# EAGLE library part USB3090-XX-X_REVE (library USB3090-XX-X_REVE)
Micro USB Receptacle, Type AB, SMT, R/A, Bottom Mount, w/out Peg, w/outer shell stakes Check prices <https://pricing.snapeda.com/parts/USB3090-30-A/Global%20Connector%20Technology/view-part?ref=eda>
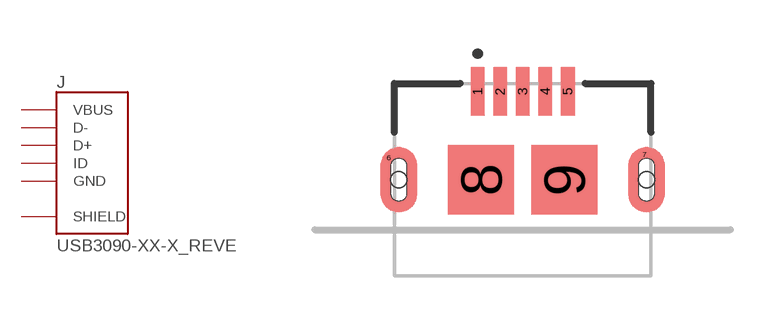
[diagram p0: symbol with the pads of GCT_USB3090-XX-X_REVE; footprint GCT_USB3090-XX-X_REVE]

Designator prefix J

## USB3090-XX-X_REVE (Availability: In Stock; Description: USB - micro AB USB 2.0 Receptacle Connector 5 Position Surface Mount, Right Angle; Through Hole, 2.35mm profile, 5 Pins, Horizontal, Bottom mount; MF: Global Connector Technology; MP: USB3090-30-A; Package: None; Price: None; Purchase-URL: https://pricing.snapeda.com/search/part/USB3090-30-A/?ref=eda)  [GCT_USB3090-XX-X_REVE]
1  VBUS  pwr
2  D-
3  D+
4  ID
5  GND  pwr
6  SHIELD  pwr
7  SHIELD  pwr
8  SHIELD  pwr
9  SHIELD  pwr

## Footprint GCT_USB3090-XX-X_REVE (pad centres in mm)
smd 0.4 x 1.4: 1 -1.3,2.55; 2 -0.65,2.55; 3 0,2.55; 4 0.65,2.55; 5 1.3,2.55
smd 0.1 x 0.1: 6 -3.87,0.63; 7 3.51,0.72
smd 1.9 x 2: 8 -1.2,0; 9 1.2,0
hole 0.45 at -3.575,0
hole 0.45 at 3.575,0